# Altium footprint library HSOP-8.PcbLib: 1 footprints
Each footprint in its own frame and in the unit in brackets; x right, y up, seen from the top. Pads: shape width x height; smd on the part's side, far side on the other; paste and mask are expansions set on the pad; w line width, h text height; cw(c..) or ccw(c..) is an arc to the next point about the centre after c.
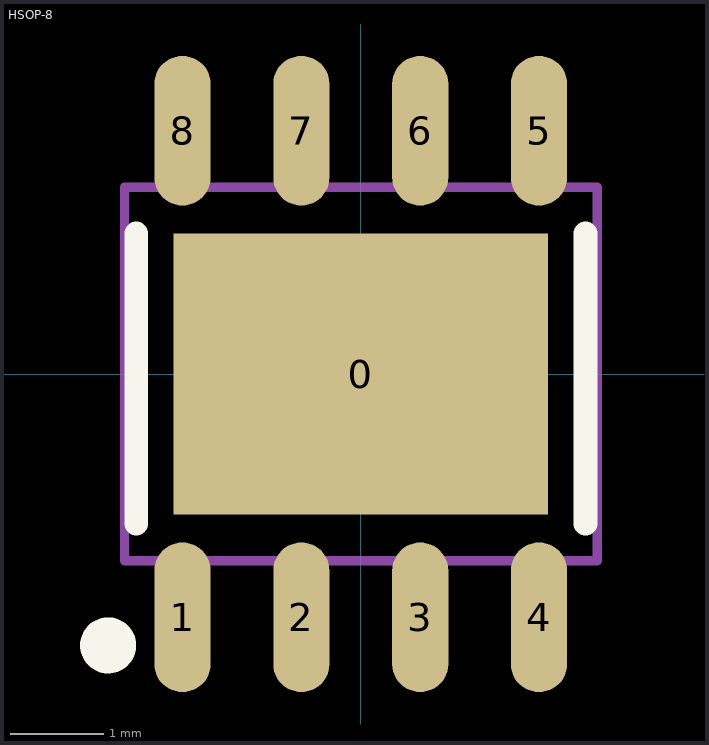
[diagram p0: the footprint, top view; thin cyan lines are the x and y axes]

## HSOP-8 [mm]
pads (9):
  rect 4x3 smd: 0(0,0)
  oval 0.6x1.6 smd: 1(-1.905,-2.6) 2(-0.635,-2.6) 3(0.635,-2.6) 4(1.905,-2.6) 5(1.905,2.6) 6(0.635,2.6) 7(-0.635,2.6) 8(-1.905,2.6)
Top Overlay:
  circle w0.3: c-2.7,-2.9 r0.15
  lines w0.254: -2.4,-1.6 -2.4,1.5 ; 2.4,-1.6 2.4,1.5
Mechanical 13:
  lines w0.1: -2.525,-1.995 2.525,-1.995 2.525,1.995 -2.525,1.995 -2.525,-1.995